# EAGLE library part XFMR_LL7903 (library wheat)
Mic transformer, LL7903 Lundahl
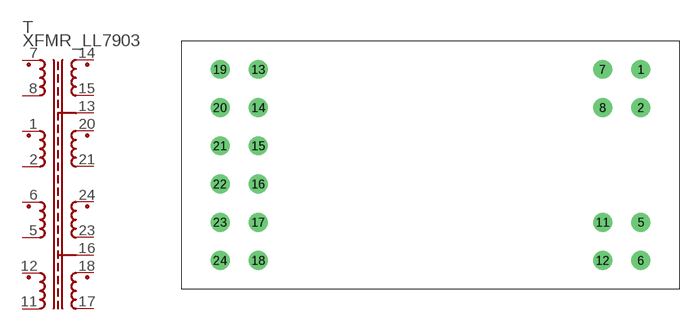
[diagram p126: symbol with the pads of LL7903; footprint LL7903]

Designator prefix T

## XFMR_LL7903  [LL7903]
1  1  pas
2  2  pas
5  5  pas
6  6  pas
7  7  pas
8  8  pas
11  11  pas
12  12  pas
13  13  pas
14  14  pas
15  15  pas
16  16  pas
17  17  pas
18  18  pas
20  20  pas
21  21  pas
23  23  pas
24  24  pas

## Footprint LL7903 (pad centres in mm)
Mic transformer, Lundahl LL7903
drill 1.676: 1 27.94,12.7; 2 27.94,7.62; 5 27.94,-7.62; 6 27.94,-12.7; 7 22.86,12.7; 8 22.86,7.62; 11 22.86,-7.62; 12 22.86,-12.7; 13 -22.86,12.7; 14 -22.86,7.62; 15 -22.86,2.54; 16 -22.86,-2.54; 17 -22.86,-7.62; 18 -22.86,-12.7; 19 -27.94,12.7; 20 -27.94,7.62; 21 -27.94,2.54; 22 -27.94,-2.54; 23 -27.94,-7.62; 24 -27.94,-12.7